# Altium schematic symbol library 6TCE470MI.Schlib: 1 symbol
Pins are listed as number, name and electrical type; pins without a type are passive.

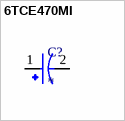
[diagram p0: symbol 6TCE470MI]

## 6TCE470MI
designator C?
pins: 1, 2